# Altium schematic symbol library 8点阵.SCHLIB: 1 symbol
Pins are listed as number, name and electrical type; pins without a type are passive.

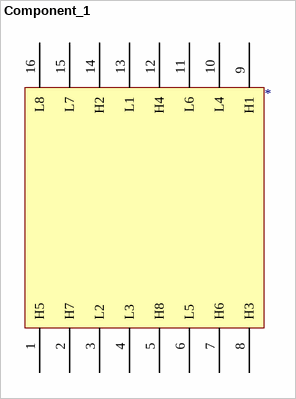
[diagram p0: symbol Component_1]

## Component_1
designator ?
pins: 1 H5, 2 H7, 3 L2, 4 L3, 5 H8, 6 L5, 7 H6, 8 H3, 9 H1, 10 L4, 11 L6, 12 H4, 13 L1, 14 H2, 15 L7, 16 L8